# Altium footprint library TOxx.PcbLib: 93 footprints (part 2 of 6)
Each footprint in its own frame and in the unit in brackets; x right, y up, seen from the top. Pads: shape width x height; smd on the part's side, far side on the other; paste and mask are expansions set on the pad; w line width, h text height; cw(c..) or ccw(c..) is an arc to the next point about the centre after c.
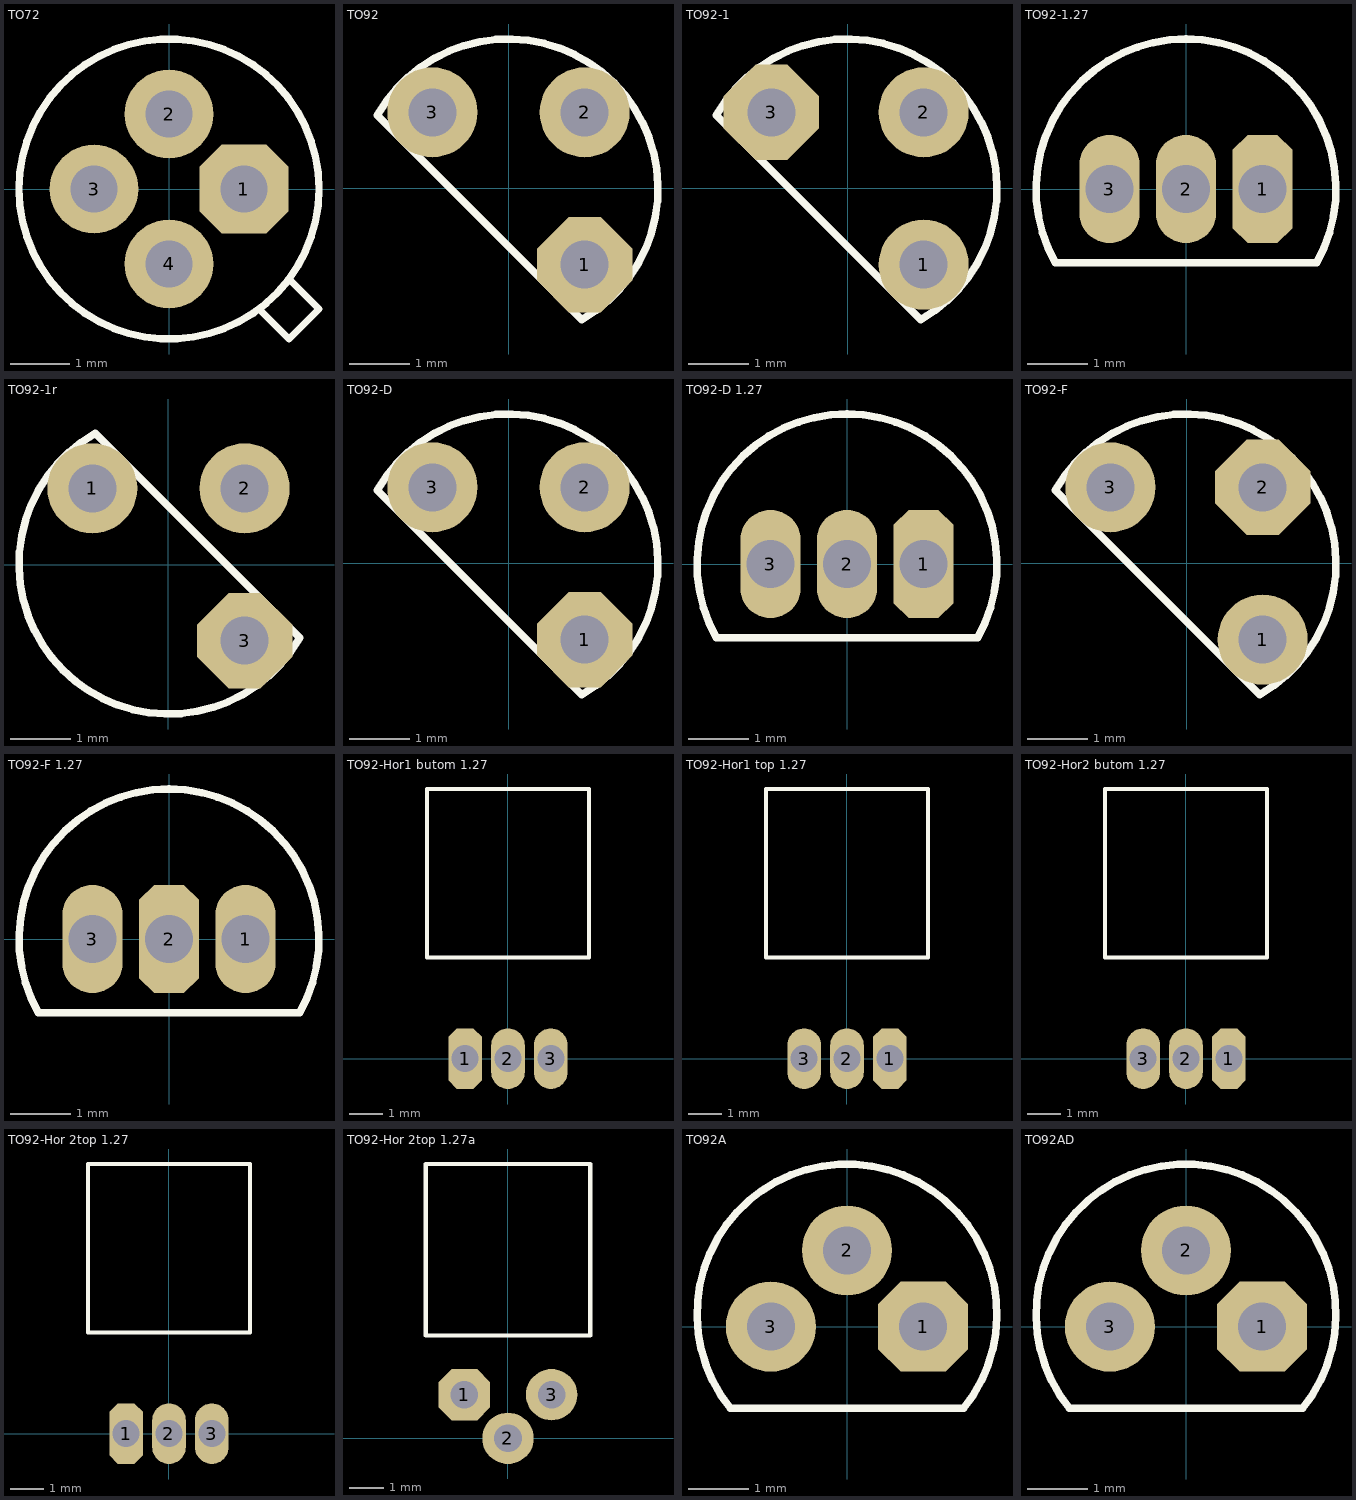
[diagram p1: the footprints below, top view; thin cyan lines are the x and y axes]

## TO72 [mm]
pads (4):
  oct 1.5x1.5 hole 0.8: 1(1.27,0)
  round 1.5 hole 0.8: 2(0,1.27) 3(-1.27,0) 4(0,-1.27)
TopOverlay:
  circle w0.125: c0,0 r2.54
  lines w0.125: 1.524,-2.032 2.032,-2.54 2.54,-2.032 2.032,-1.524

## TO92 [mm]
pads (3):
  oct 1.5x1.5 hole 0.8 rot 135: 1(1.27,-1.27)
  round 1.5 hole 0.8: 2(1.27,1.27) 3(-1.27,1.27)
TopOverlay:
  lines w0.125: -2.185,1.221 cw(c-0.009,-0.009) 1.221,-2.185 -2.185,1.221
3D body: height 8, standoff -3, extent -2.395,-2.389 2.395,2.4

## TO92-1 [mm]
pads (3):
  round 1.5 hole 0.8: 1(1.27,-1.27) 2(1.27,1.27)
  oct 1.5x1.5 hole 0.8 rot 135: 3(-1.27,1.27)
TopOverlay:
  lines w0.125: -2.185,1.221 cw(c-0.009,-0.009) 1.221,-2.185 -2.185,1.221
3D body: height 8, standoff -3, extent -2.389,-2.395 2.4,2.395

## TO92-1.27 [mm]
pads (3):
  oct 1x1.8 hole 0.8: 1(1.27,0)
  oval 1x1.8 hole 0.8: 2(0,0) 3(-1.27,0)
TopOverlay:
  lines w0.125: -2.167,-1.224 cw(c0,0) 2.167,-1.224 -2.167,-1.224
3D body: height 8, standoff -3, extent -2.4,-1.517 2.4,2.413

## TO92-1r [mm]
pads (3):
  round 1.5 hole 0.8: 1(-1.27,1.27) 2(1.27,1.27)
  oct 1.5x1.5 hole 0.8 rot 135: 3(1.27,-1.27)
TopOverlay:
  lines w0.125: -1.221,2.185 ccw(c0.009,0.009) 2.185,-1.221 -1.221,2.185
3D body: height 8, standoff -3, extent -2.4,-2.395 2.389,2.395

## TO92-D [mm]
pads (3):
  oct 1.5x1.5 hole 0.8 rot 135: 1(1.27,-1.27)
  round 1.5 hole 0.8: 2(1.27,1.27) 3(-1.27,1.27)
TopOverlay:
  lines w0.125: -2.185,1.221 cw(c-0.009,-0.009) 1.221,-2.185 -2.185,1.221
3D body: height 8, standoff -3, extent -2.4,-2.4 2.389,2.389

## TO92-D 1.27 [mm]
pads (3):
  oct 1x1.8 hole 0.8: 1(1.27,0)
  oval 1x1.8 hole 0.8: 2(0,0) 3(-1.27,0)
TopOverlay:
  lines w0.125: -2.167,-1.224 cw(c0,0) 2.167,-1.224 -2.167,-1.224
3D body: height 8, standoff -3, extent -2.4,-1.517 2.4,2.413

## TO92-F [mm]
pads (3):
  round 1.5 hole 0.8: 1(1.27,-1.27) 3(-1.27,1.27)
  oct 1.5x1.5 hole 0.8 rot 135: 2(1.27,1.27)
TopOverlay:
  lines w0.125: -2.185,1.221 cw(c-0.009,-0.009) 1.221,-2.185 -2.185,1.221
3D body: height 8, standoff -3, extent -2.4,-2.4 2.389,2.389

## TO92-F 1.27 [mm]
pads (3):
  oval 1x1.8 hole 0.8: 1(1.27,0) 3(-1.27,0)
  oct 1x1.8 hole 0.8: 2(0,0)
TopOverlay:
  lines w0.125: -2.167,-1.224 cw(c0,0) 2.167,-1.224 -2.167,-1.224
3D body: height 8, standoff -3, extent -2.413,-1.524 2.387,2.406

## TO92-Hor1 butom 1.27 [mm]
pads (3):
  oct 1x1.8 hole 0.8: 1(-1.27,0)
  oval 1x1.8 hole 0.8: 2(0,0) 3(1.27,0)
TopOverlay:
  lines w0.125: -2.4,3 -2.4,8 2.4,8 2.4,3 -2.4,3
3D body: height 5.34, standoff -1.27, extent -2.4,-0.22 2.4,8

## TO92-Hor1 top 1.27 [mm]
pads (3):
  oct 1x1.8 hole 0.8: 1(1.27,0)
  oval 1x1.8 hole 0.8: 2(0,0) 3(-1.27,0)
TopOverlay:
  lines w0.125: -2.4,3 -2.4,8 2.4,8 2.4,3 -2.4,3
3D body: height 4.07, standoff -2.54, extent -2.4,-0.22 2.4,8

## TO92-Hor2 butom 1.27 [mm]
pads (3):
  oct 1x1.8 hole 0.8: 1(1.27,0)
  oval 1x1.8 hole 0.8: 2(0,0) 3(-1.27,0)
TopOverlay:
  lines w0.125: -2.4,3 -2.4,8 2.4,8 2.4,3 -2.4,3
3D body: height 4.94, standoff -2.54, extent -2.4,-0.23 2.4,8

## TO92-Hor 2top 1.27 [mm]
pads (3):
  oct 1x1.8 hole 0.8: 1(-1.27,0)
  oval 1x1.8 hole 0.8: 2(0,0) 3(1.27,0)
TopOverlay:
  lines w0.125: -2.4,3 2.4,3 2.4,8 -2.4,8 -2.4,3
3D body: height 3.9, standoff -3.58, extent -2.4,-0.23 2.4,8

## TO92-Hor 2top 1.27a [mm]
pads (3):
  oct 1.5x1.5 hole 0.8: 1(-1.27,1.27)
  round 1.5 hole 0.813: 2(0,0)
  round 1.5 hole 0.8: 3(1.27,1.27)
TopOverlay:
  lines w0.125: -2.4,3 -2.4,8 2.4,8 2.4,3 -2.4,3
3D body: height 3.9, standoff -3.58, extent -2.4,-0.225 2.4,8

## TO92A [mm]
pads (3):
  oct 1.5x1.5 hole 0.8: 1(1.27,0)
  round 1.5 hole 0.8: 2(0,1.27) 3(-1.27,0)
TopOverlay:
  lines w0.125: -1.943,-1.362 cw(c0,0.212) 1.943,-1.362 -1.943,-1.362
3D body: height 8, standoff -3.02, extent -2.4,-1.524 2.4,2.406

## TO92AD [mm]
pads (3):
  oct 1.5x1.5 hole 0.8: 1(1.27,0)
  round 1.5 hole 0.8: 2(0,1.27) 3(-1.27,0)
TopOverlay:
  lines w0.125: -1.943,-1.362 cw(c0,0.212) 1.943,-1.362 -1.943,-1.362
3D body: height 8, standoff -3.02, extent -2.4,-1.524 2.4,2.406